# Altium schematic symbol library RES,18k2,0.1%,0.1W,0805.Schlib: 1 symbol
Pins are listed as number, name and electrical type; pins without a type are passive.

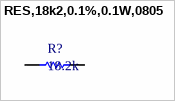
[diagram p0: symbol RES,18k2,0.1%,0.1W,0805]

## RES,18k2,0.1%,0.1W,0805
designator R?, comment 18.2k
18.2 kOhms ±0.1% 0.1W, 1/10W Chip Resistor 0805 (2012 Metric) Thin Film
pins: 1, 2